# EAGLE library part ARDMINIPRO (library Charlie)
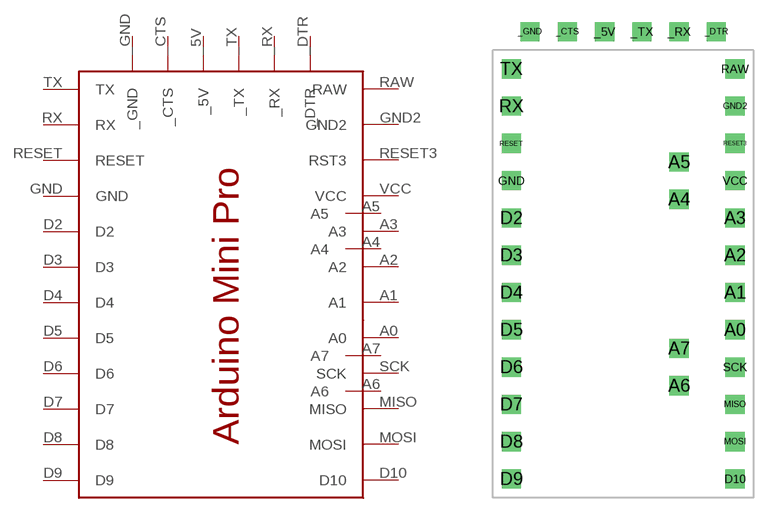
[diagram p0: symbol with the pads of ARDMINIPRO; footprint ARDMINIPRO]

Designator prefix -

## ARDMINIPRO  [ARDMINIPRO]
_5V  _5V
_CTS  _CTS
_DTR  _DTR
_GND  _GND
_RX  _RX
_TX  _TX
A0  A0
A1  A1
A2  A2
A3  A3
A4  A4
A5  A5
A6  A6
A7  A7
D2  D2
D3  D3
D4  D4
D5  D5
D6  D6
D7  D7
D8  D8
D9  D9
D10  D10
GND  GND
GND2  GND2
MISO  MISO
MOSI  MOSI
RAW  RAW
RESET  RESET
RESET3  RST3
RX  RX
SCK  SCK
TX  TX
VCC  VCC

## Footprint ARDMINIPRO (pad centres in mm)
drill 0.8 square: _5V -1.27,16.51; _CTS -3.81,16.51; _DTR 6.35,16.51; _GND -6.35,16.51; _RX 3.81,16.51; _TX 1.27,16.51; A0 7.62,-3.81; A1 7.62,-1.27; A2 7.62,1.27; A3 7.62,3.81; A4 3.81,5.08; A5 3.81,7.62; A6 3.81,-7.62; A7 3.81,-5.08; D2 -7.62,3.81; D3 -7.62,1.27; D4 -7.62,-1.27; D5 -7.62,-3.81; D6 -7.62,-6.35; D7 -7.62,-8.89; D8 -7.62,-11.43; D9 -7.62,-13.97; D10 7.62,-13.97; GND -7.62,6.35; GND2 7.62,11.43; MISO 7.62,-8.89; MOSI 7.62,-11.43; RAW 7.62,13.97; RESET -7.62,8.89; RESET3 7.62,8.89; RX -7.62,11.43; SCK 7.62,-6.35; TX -7.62,13.97; VCC 7.62,6.35